# Altium integrated library WE-PD2 (rev22d).IntLib: 115 symbols (part 3 of 3)
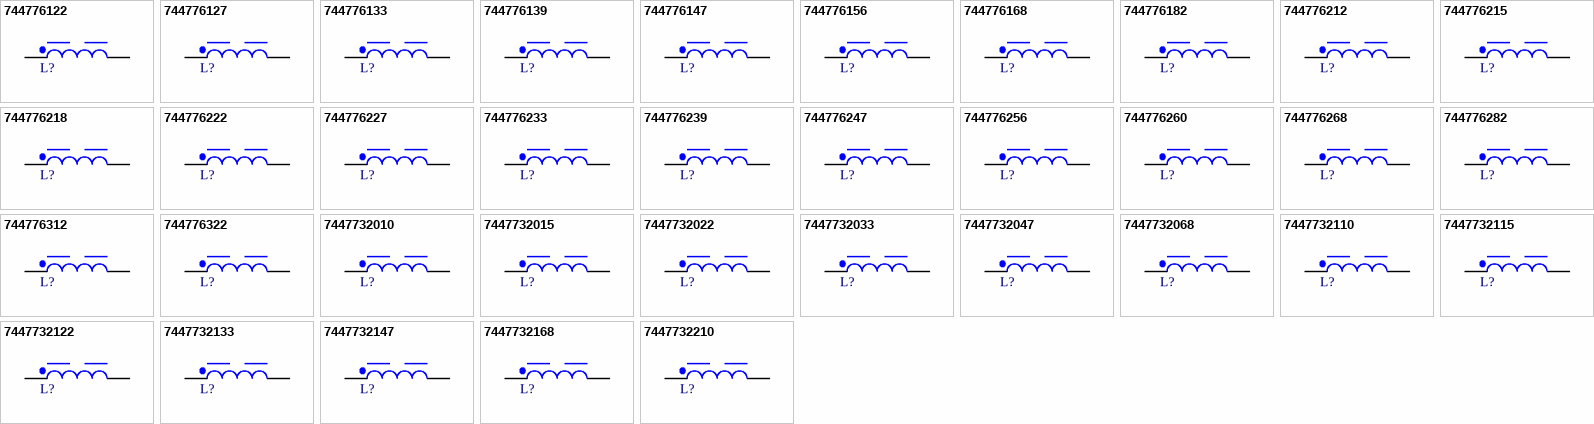
[diagram p4: symbols 744776122 to 7447732210]

## 7447732147
designator L?, comment 47µH, 0.36A  (value not drawn)
WE-PD2 SMT Power Inductor, size 3521, 47µH, 0.36A, 1.33Ω; Manufacturer Part Number: 7447732147; Manufacturer: Wurth Elektronik; Case/Size Code: 3521; DC Resistance: 1.11Ω; Saturation Current: 0.59A; Self Resonant Frequency: 20MHz; Category: Unshielded Power Inductors; Match Code: WE-PD2; ComponentLink1Description: Website Link; ComponentLink1URL: https://www.we-online.com/redexpert/article/7447732147?ad; ComponentLink2Description: Datasheet Link; ComponentLink2URL: https://www.we-online.com/redexpert/spec/7447732147?ad; Mount: Surface Mount; Operating Temperature Max: 125°C; Operating Temperature Min: -40°C; Packaging: Tape and Reel; Length: 3mm; Width: 3.5mm; Height: 2.1mm; DC Resistance Max: 1.33Ω; Inductance: 47µH; Rated Current: 0.36A
footprint WE-PD2_3521
simulation model 3521_7447732147_47u
pins: 1, 2

## 7447732168
designator L?, comment 68µH, 0.3A  (value not drawn)
WE-PD2 SMT Power Inductor, size 3521, 68µH, 0.3A, 1.8Ω; Manufacturer Part Number: 7447732168; Manufacturer: Wurth Elektronik; Case/Size Code: 3521; DC Resistance: 1.57Ω; Saturation Current: 0.49A; Self Resonant Frequency: 16MHz; Category: Unshielded Power Inductors; Match Code: WE-PD2; ComponentLink1Description: Website Link; ComponentLink1URL: https://www.we-online.com/redexpert/article/7447732168?ad; ComponentLink2Description: Datasheet Link; ComponentLink2URL: https://www.we-online.com/redexpert/spec/7447732168?ad; Mount: Surface Mount; Operating Temperature Max: 125°C; Operating Temperature Min: -40°C; Packaging: Tape and Reel; Length: 3mm; Width: 3.5mm; Height: 2.1mm; DC Resistance Max: 1.8Ω; Inductance: 68µH; Rated Current: 0.3A
footprint WE-PD2_3521
simulation model 3521_7447732168_68u
pins: 1, 2

## 7447732210
designator L?, comment 100µH, 0.24A  (value not drawn)
WE-PD2 SMT Power Inductor, size 3521, 100µH, 0.24A, 2.8Ω; Manufacturer Part Number: 7447732210; Manufacturer: Wurth Elektronik; Case/Size Code: 3521; DC Resistance: 2.42Ω; Saturation Current: 0.41A; Self Resonant Frequency: 12MHz; Category: Unshielded Power Inductors; Match Code: WE-PD2; ComponentLink1Description: Website Link; ComponentLink1URL: https://www.we-online.com/redexpert/article/7447732210?ad; ComponentLink2Description: Datasheet Link; ComponentLink2URL: https://www.we-online.com/redexpert/spec/7447732210?ad; Mount: Surface Mount; Operating Temperature Max: 125°C; Operating Temperature Min: -40°C; Packaging: Tape and Reel; Length: 3mm; Width: 3.5mm; Height: 2.1mm; DC Resistance Max: 2.8Ω; Inductance: 100µH; Rated Current: 0.24A
footprint WE-PD2_3521
simulation model 3521_7447732210_100u
pins: 1, 2